# Altium schematic symbol library Lab10.SchLib: 4 symbols
Pins are listed as number, name and electrical type; pins without a type are passive.

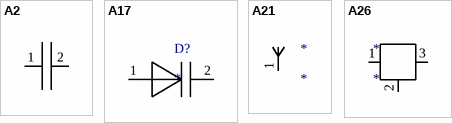
[diagram p0: symbols A2 to A26]

## A2
designator *C?  (value not drawn)
pins: 1, 2

## A17
designator D?
pins: 1, 2

## A21
designator *
pins: 1

## A26
designator *
pins: 1, 2, 3